# Altium footprint library IPB044N15N5ATMA1.PcbLib: 1 footprints
Each footprint in its own frame and in the unit in brackets; x right, y up, seen from the top. Pads: shape width x height; smd on the part's side, far side on the other; paste and mask are expansions set on the pad; w line width, h text height; cw(c..) or ccw(c..) is an arc to the next point about the centre after c.
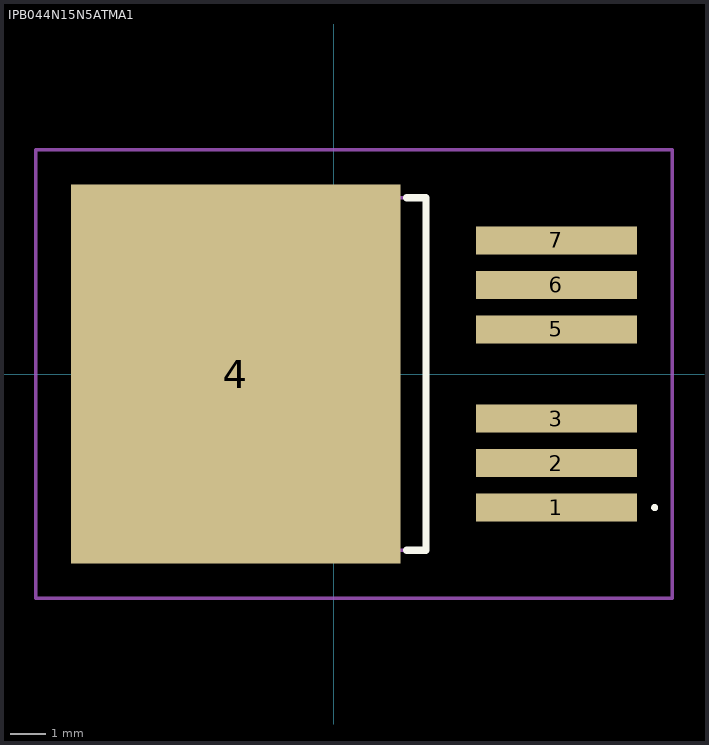
[diagram p0: the footprint, top view; thin cyan lines are the x and y axes]

## IPB044N15N5ATMA1 [mm]
pads (7):
  rect 4.6x0.8 smd: 1(6.35,-3.81) 2(6.35,-2.54) 3(6.35,-1.27) 5(6.35,1.27) 6(6.35,2.54) 7(6.35,3.81)
  rect 9.4x10.8 smd: 4(-2.8,0)
Top Overlay:
  lines w0.1: 9.1,-3.81 cw(c9.15,-3.81) 9.2,-3.81 ; 9.1,-3.81 9.1,-3.81 ; 9.1,-3.81 ccw(c9.15,-3.81) 9.2,-3.81 ; 9.2,-3.81 9.2,-3.81
  lines w0.2: 2.067,-5.027 2.63,-5.027 2.63,5.027 2.067,5.027
Mechanical 15:
  lines w0.1: -6.35,-5.027 2.63,-5.027 2.63,5.027 -6.35,5.027 -6.35,-5.027
Mechanical 20:
  lines w0.1: -8.5,-6.4 9.65,-6.4 9.65,6.4 -8.5,6.4 -8.5,-6.4